# Altium schematic symbol library IC_Components.SchLib: 15 symbols
Pins are listed as number, name and electrical type; pins without a type are passive.

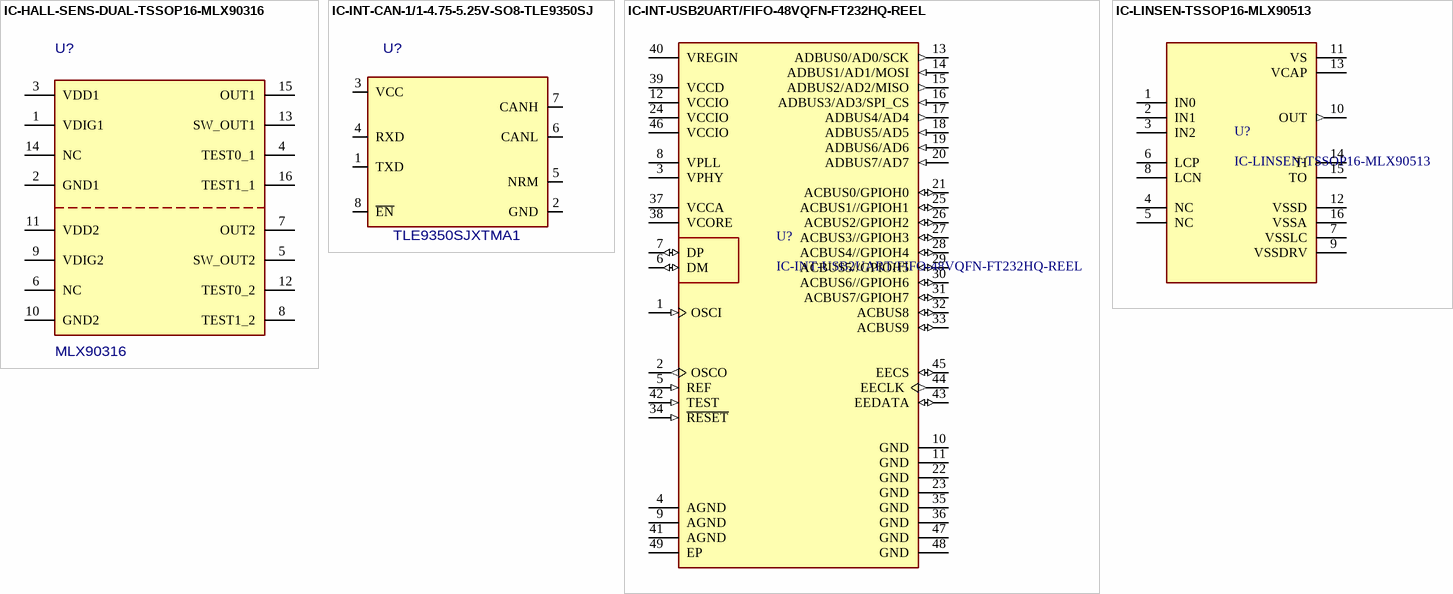
[diagram p0: symbols IC-HALL-SENS-DUAL-TSSOP16-MLX90316 to IC-LINSEN-TSSOP16-MLX90513]

## IC-HALL-SENS-DUAL-TSSOP16-MLX90316
designator U?  value MLX90316  (hidden comment: IC-HALL-SENS-DUAL-TSSOP16-MLX90316)
Dual-Die Hall Effect Rotation Sensor, MLX90316, TSSOP16; QPN: 129-002219-9316; MFGPN: MLX90316KGO; MFG: Melexis; PCB DECAL: SSOP/16P/N; OPN: 82247900
footprint TSSOP-16_4.4x5mm_P0.65mm (TSOP, 16-Leads, Body 5.00x4.40mm, Pitch 0.65mm, IPC Medium Density)
pins: 1 VDIG1, 2 GND1, 3 VDD1, 4 TEST0_1, 5 SW_OUT2, 6 NC, 7 OUT2, 8 TEST1_2, 9 VDIG2, 10 GND2, 11 VDD2, 12 TEST0_2, 13 SW_OUT1, 14 NC, 15 OUT1, 16 TEST1_1

## IC-INT-CAN-1/1-4.75-5.25V-SO8-TLE9350SJ
designator U?  value TLE9350SJXTMA1  (hidden comment: IC-INT-CAN-1/1-4.75-5.25V-SO8-TLE9350SJ)
IC, CAN, XCVR, 1:1, 5Mbps, 4.75-5.25V, SO8; MFG: Infineon Technologies; QPN: 129-101808-9350; Temp: 150C; MFGPN: TLE9350SJXTMA1
footprint SOIC-8P-NARROW (SOIC8, Narrow)
pins: 1 TXD, 2 GND, 3 VCC, 4 RXD, 5 NRM, 6 CANL, 7 CANH, 8 ~{EN}

## IC-INT-USB2UART/FIFO-48VQFN-FT232HQ-REEL
designator U?
USB Bridge, USB to UART,FIFO USB 2.0 UART, FIFO Interface 48-QFN (8x8); MFG: FTDI, Future; QPN: 129-103528-0232; SnapEDA_Link: https://www.snapeda.com/parts/FT232HQ-REEL/FTDI/view-part/?ref=snap; Value: FT232HQ; MFGPN: FT232HQ-REEL
footprint VQFPN49-EP
pins: 1 OSCI (in), 2 OSCO (out), 3 VPHY (power), 4 AGND (power), 5 REF (in), 6 DM (io), 7 DP (io), 8 VPLL (power), 9 AGND (power), 10 GND (power), 11 GND (power), 12 VCCIO (power), 13 ADBUS0/AD0/SCK (out), 14 ADBUS1/AD1/MOSI (in), 15 ADBUS2/AD2/MISO (out), 16 ADBUS3/AD3/SPI_CS (in), 17 ADBUS4/AD4 (out), 18 ADBUS5/AD5 (in), 19 ADBUS6/AD6 (in), 20 ADBUS7/AD7 (in), 21 ACBUS0/GPIOH0 (io), 22 GND (power), 23 GND (power), 24 VCCIO (power), 25 ACBUS1//GPIOH1 (io), 26 ACBUS2/GPIOH2 (io), 27 ACBUS3//GPIOH3 (io), 28 ACBUS4//GPIOH4 (io), 29 ACBUS5//GPIOH5 (io), 30 ACBUS6//GPIOH6 (io), 31 ACBUS7/GPIOH7 (io), 32 ACBUS8 (io), 33 ACBUS9 (io), 34 ~{RESET} (in), 35 GND (power), 36 GND (power), 37 VCCA (power), 38 VCORE (power), 39 VCCD (power), 40 VREGIN (power), 41 AGND (power), 42 TEST (in), 43 EEDATA (io), 44 EECLK (out), 45 EECS (io), 46 VCCIO (power), 47 GND (power), 48 GND (power), 49 EP (power)

## IC-LINSEN-TSSOP16-MLX90513
designator U?
IC, Linear Sesnsor; MP: MLX90513GGO-CAA-100-RE; Package: None; Price: None; Value: *; Availability: Unavailable
footprint TSSOP-16-NARROW-4.4x5mm-P0.65mm
pins: 1 IN0, 2 IN1, 3 IN2, 4 NC, 5 NC, 6 LCP, 7 VSSLC (power), 8 LCN, 9 VSSDRV (power), 10 OUT (out), 11 VS (power), 12 VSSD (power), 13 VCAP (power), 14 TI, 15 TO, 16 VSSA (power)

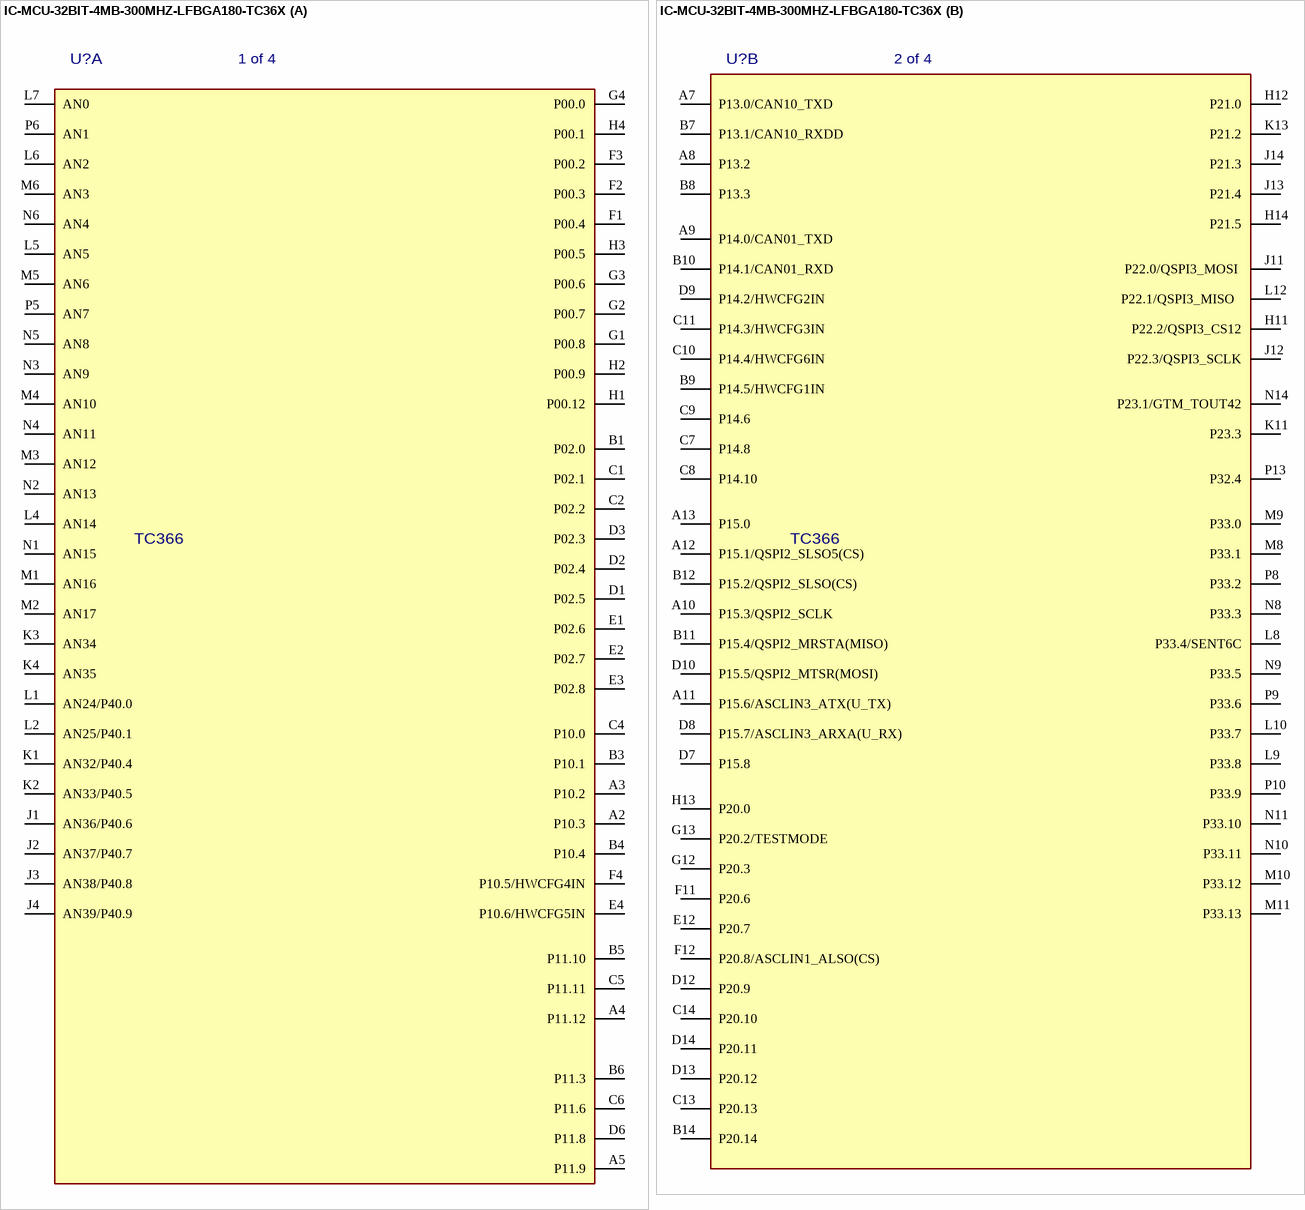
[diagram p1: symbol IC-MCU-32BIT-4MB-300MHZ-LFBGA180-TC36X]

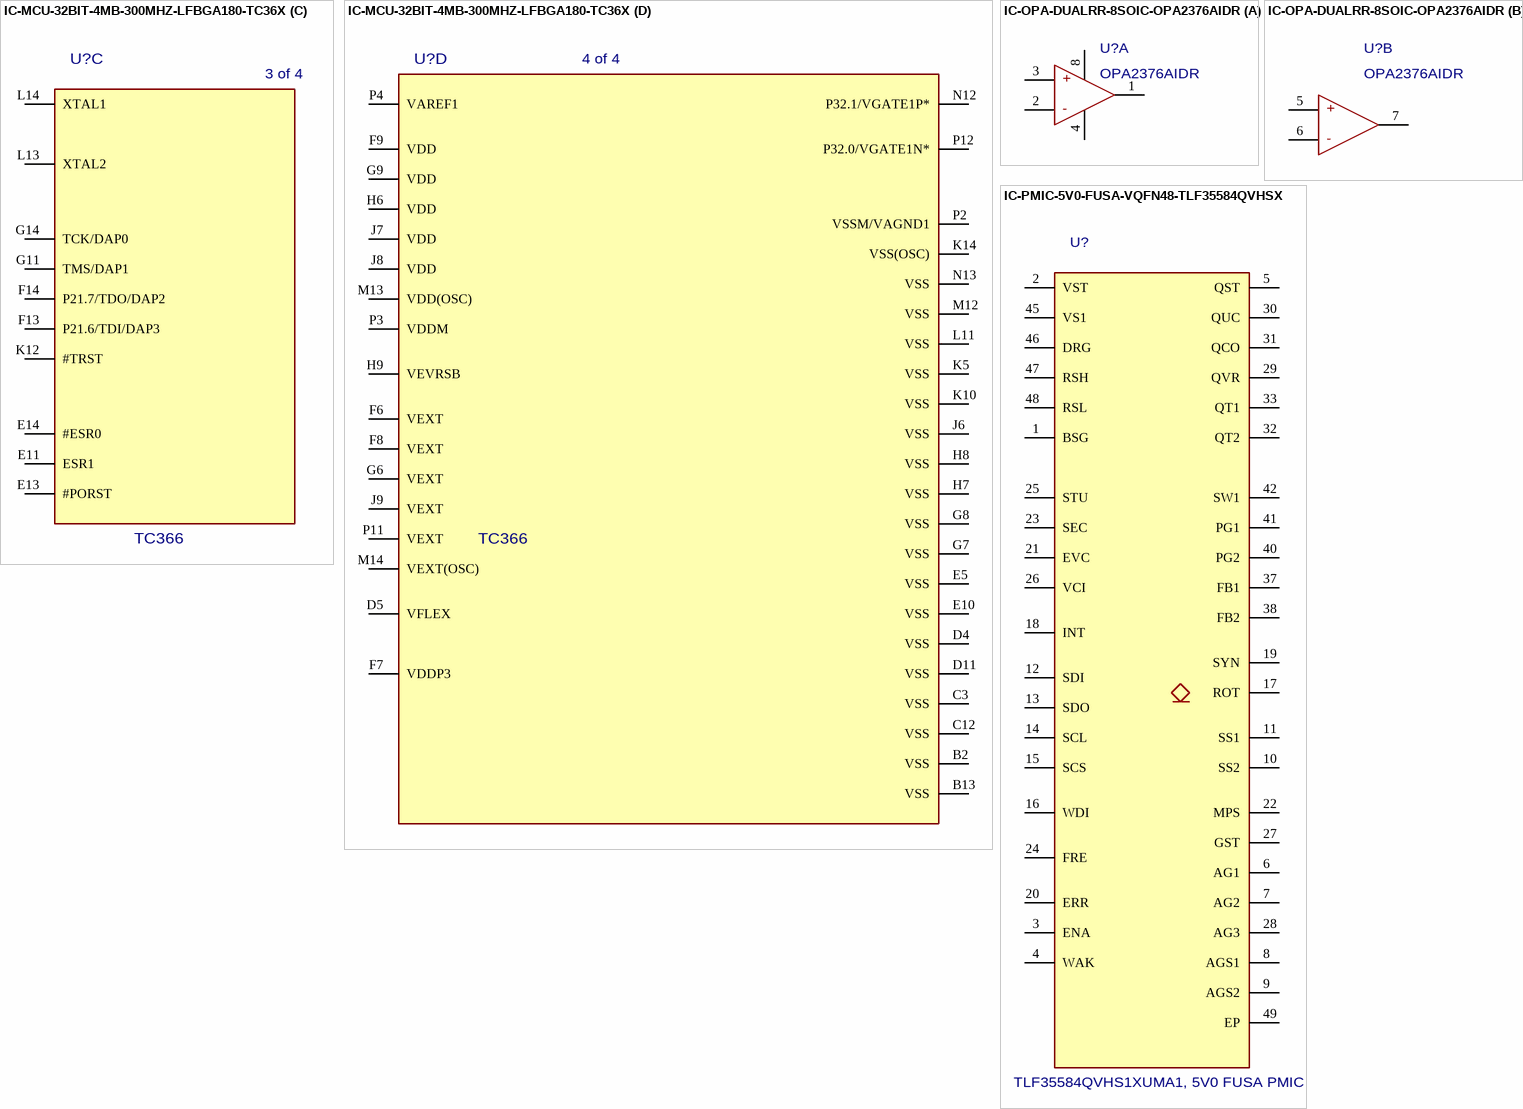
[diagram p2: symbols IC-MCU-32BIT-4MB-300MHZ-LFBGA180-TC36X to IC-PMIC-5V0-FUSA-VQFN48-TLF35584QVHSX]

## IC-MCU-32BIT-4MB-300MHZ-LFBGA180-TC36X
designator U?  value TC366  (hidden comment: IC-MCU-32BIT-4MB-300MHZ-LFBGA180-TC36X)
32-bit MCU Aurix 36X, Dual Core, LFBGA-180, 4MB, 300MHz; MFG: Infineon; MFGPN: TC366DP64F300SAAKXUMA1; QPN: 129-101340-0366; Notes: Each core contains a lock-step core; Temp: 125C
footprint PF-LFBGA-180P-INFINEON-TC36X
part A pins: A2 P10.3, A3 P10.2, A4 P11.12, A5 P11.9, B1 P02.0, B3 P10.1, B4 P10.4, B5 P11.10, B6 P11.3, C1 P02.1, C2 P02.2, C4 P10.0, C5 P11.11, C6 P11.6, D1 P02.5, D2 P02.4, D3 P02.3, D6 P11.8, E1 P02.6, E2 P02.7, E3 P02.8, E4 P10.6/HWCFG5IN, F1 P00.4, F2 P00.3, F3 P00.2, F4 P10.5/HWCFG4IN, G1 P00.8, G2 P00.7, G3 P00.6, G4 P00.0, H1 P00.12, H2 P00.9, H3 P00.5, H4 P00.1, J1 AN36/P40.6, J2 AN37/P40.7, J3 AN38/P40.8, J4 AN39/P40.9, K1 AN32/P40.4, K2 AN33/P40.5, K3 AN34, K4 AN35, L1 AN24/P40.0, L2 AN25/P40.1, L4 AN14, L5 AN5, L6 AN2, L7 AN0, M1 AN16, M2 AN17, M3 AN12, M4 AN10, M5 AN6, M6 AN3, N1 AN15, N2 AN13, N3 AN9, N4 AN11, N5 AN8, N6 AN4, P5 AN7, P6 AN1
part B pins: A7 P13.0/CAN10_TXD, A8 P13.2, A9 P14.0/CAN01_TXD, A10 P15.3/QSPI2_SCLK, A11 P15.6/ASCLIN3_ATX(U_TX), A12 P15.1/QSPI2_SLSO5(CS), A13 P15.0, B7 P13.1/CAN10_RXDD, B8 P13.3, B9 P14.5/HWCFG1IN, B10 P14.1/CAN01_RXD, B11 P15.4/QSPI2_MRSTA(MISO), B12 P15.2/QSPI2_SLSO(CS), B14 P20.14, C7 P14.8, C8 P14.10, C9 P14.6, C10 P14.4/HWCFG6IN, C11 P14.3/HWCFG3IN, C13 P20.13, C14 P20.10, D7 P15.8, D8 P15.7/ASCLIN3_ARXA(U_RX), D9 P14.2/HWCFG2IN, D10 P15.5/QSPI2_MTSR(MOSI), D12 P20.9, D13 P20.12, D14 P20.11, E12 P20.7, F11 P20.6, F12 P20.8/ASCLIN1_ALSO(CS), G12 P20.3, G13 P20.2/TESTMODE, H11 P22.2/QSPI3_CS12, H12 P21.0, H13 P20.0, H14 P21.5, J11 P22.0/QSPI3_MOSI , J12 P22.3/QSPI3_SCLK, J13 P21.4, J14 P21.3, K11 P23.3, K13 P21.2, L8 P33.4/SENT6C, L9 P33.8, L10 P33.7, L12 P22.1/QSPI3_MISO  , M8 P33.1, M9 P33.0, M10 P33.12, M11 P33.13, N8 P33.3, N9 P33.5, N10 P33.11, N11 P33.10, N14 P23.1/GTM_TOUT42, P8 P33.2, P9 P33.6, P10 P33.9, P13 P32.4
part C pins: E11 ESR1, E13 #PORST, E14 #ESR0, F13 P21.6/TDI/DAP3, F14 P21.7/TDO/DAP2, G11 TMS/DAP1, G14 TCK/DAP0, K12 #TRST, L13 XTAL2, L14 XTAL1
part D pins: B2 VSS, B13 VSS, C3 VSS, C12 VSS, D4 VSS, D5 VFLEX, D11 VSS, E5 VSS, E10 VSS, F6 VEXT, F7 VDDP3, F8 VEXT, F9 VDD, G6 VEXT, G7 VSS, G8 VSS, G9 VDD, H6 VDD, H7 VSS, H8 VSS, H9 VEVRSB, J6 VSS, J7 VDD, J8 VDD, J9 VEXT, K5 VSS, K10 VSS, K14 VSS(OSC), L11 VSS, M12 VSS, M13 VDD(OSC), M14 VEXT(OSC), N12 P32.1/VGATE1P*, N13 VSS, P2 VSSM/VAGND1, P3 VDDM, P4 VAREF1, P11 VEXT, P12 P32.0/VGATE1N*
part A text: 1 of 4
part B text: 2 of 4
part C text: 3 of 4
part D text: 4 of 4

## IC-OPA-DUALRR-8SOIC-OPA2376AIDR
designator U?  MFGPN: OPA2376AIDR  (hidden comment: IC-OPA-DUALRR-8SOIC-OPA2376AIDR)
IC, Op-Amp, Rail-Rail, Dual, 5.5MHz, GP, SOIC-8; QPN: 129-101805-2376; MFG: Texas Instruments; Temp: 125C; Value: OPA2376
footprint SOIC-8P-NARROW (SOIC8, Narrow)
part A pins: 1 O1, 2 IN1-, 3 IN1+, 4 VSS, 8 VDD
part B pins: 5 IN2+, 6 IN2-, 7 O2
part A text: +; -
part B text: +; -

## IC-PMIC-5V0-FUSA-VQFN48-TLF35584QVHSX
designator U?  value TLF35584QVHS1XUMA1, 5V0 FUSA PMIC  (hidden comment: IC-PMIC-5V0-FUSA-VQFN48-TLF35584QVHSX)
IC, PMIC, 5V0 Functional Safety Regulator, VQFN48; MFG: Infineon; MFGPN: TLF35584QVHS1XUMA1; QPN: 129-033526-3551; Temp: 175C
footprint VQFPN48-EP
pins: 1 BSG, 2 VST, 3 ENA, 4 WAK, 5 QST, 6 AG1, 7 AG2, 8 AGS1, 9 AGS2, 10 SS2, 11 SS1, 12 SDI, 13 SDO, 14 SCL, 15 SCS, 16 WDI, 17 ROT, 18 INT, 19 SYN, 20 ERR, 21 EVC, 22 MPS, 23 SEC, 24 FRE, 25 STU, 26 VCI, 27 GST, 28 AG3, 29 QVR, 30 QUC, 31 QCO, 32 QT2, 33 QT1, 37 FB1, 38 FB2, 40 PG2, 41 PG1, 42 SW1, 45 VS1, 46 DRG, 47 RSH, 48 RSL, 49 EP

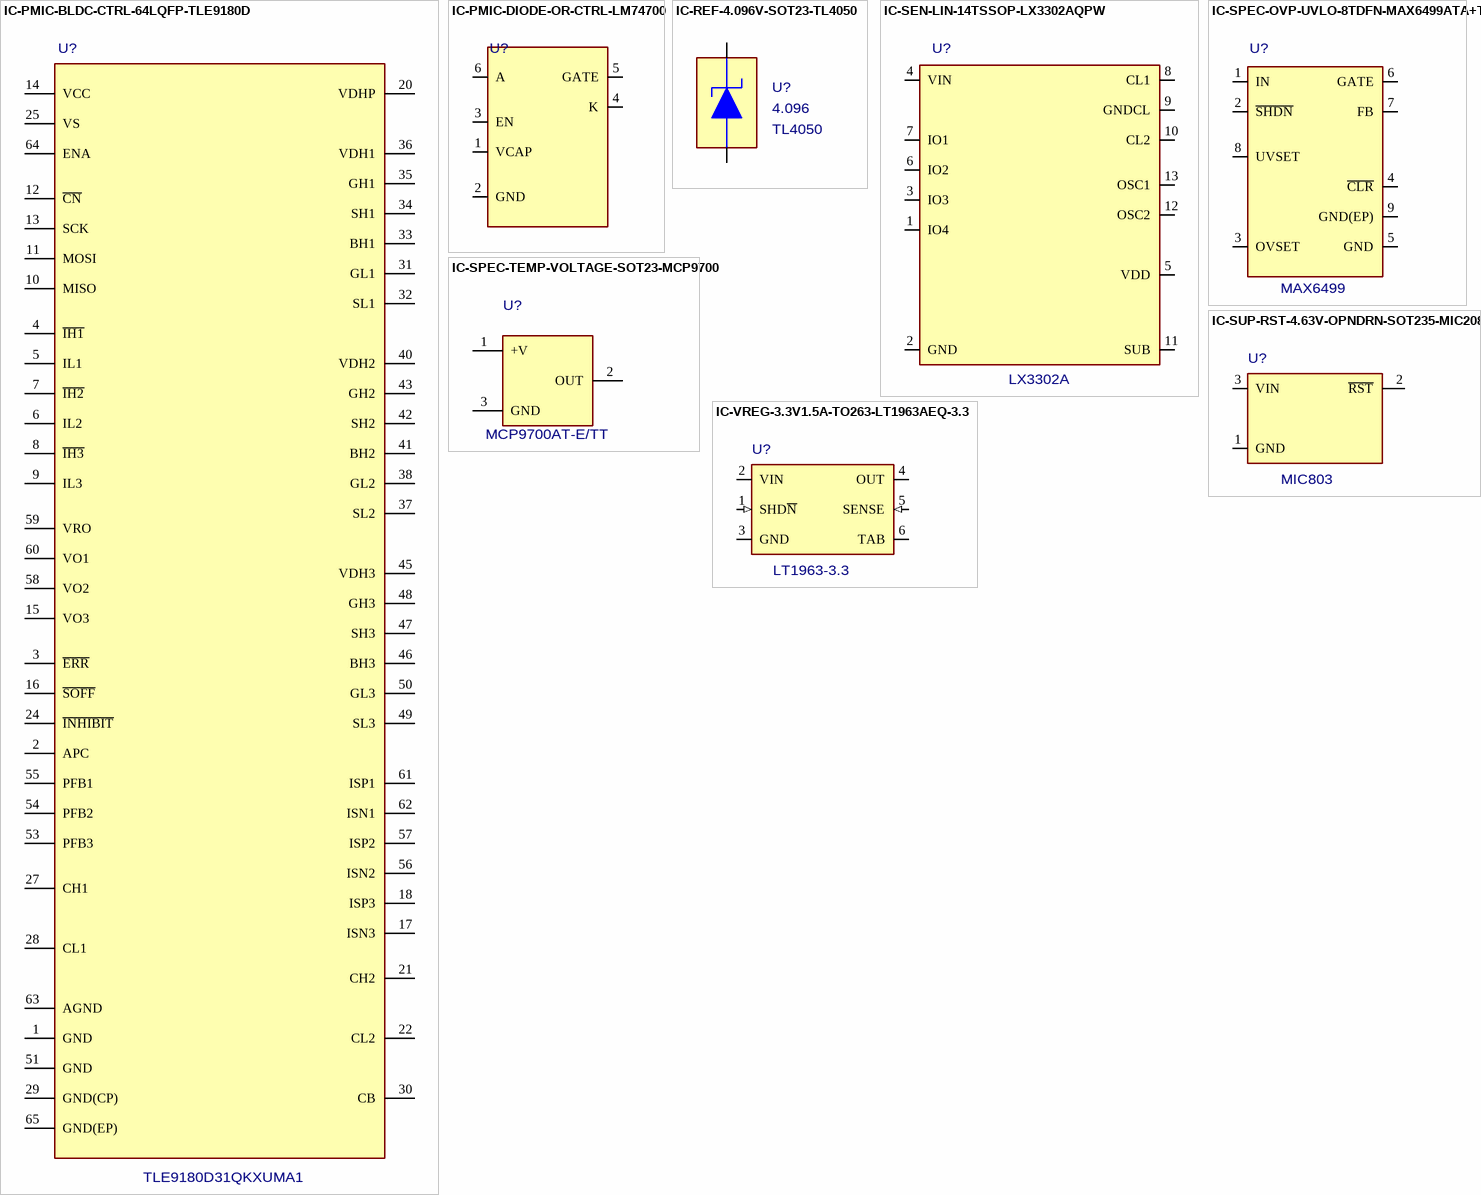
[diagram p3: symbols IC-PMIC-BLDC-CTRL-64LQFP-TLE9180D to IC-VREG-3.3V1.5A-TO263-LT1963AEQ-3.3]

## IC-PMIC-BLDC-CTRL-64LQFP-TLE9180D
designator U?  value TLE9180D31QKXUMA1  (hidden comment: IC-PMIC-BLDC-CTRL-64LQFP-TLE9180D)
IC, PMIC, BLDC CTRL,64 LQFP; MFG: Infineon; QPN: 129-012039-9180; Temp: 150C; MFGPN: TLE9180D31QKXUMA1
footprint LQFP64_EP
pins: 1 GND, 2 APC, 3 ~{ERR}, 4 ~{IH1}, 5 IL1, 6 IL2, 7 ~{IH2}, 8 ~{IH3}, 9 IL3, 10 MISO, 11 MOSI, 12 ~{CN}, 13 SCK, 14 VCC, 15 VO3, 16 ~{SOFF}, 17 ISN3, 18 ISP3, 20 VDHP, 21 CH2, 22 CL2, 24 ~{INHIBIT}, 25 VS, 27 CH1, 28 CL1, 29 GND(CP), 30 CB, 31 GL1, 32 SL1, 33 BH1, 34 SH1, 35 GH1, 36 VDH1, 37 SL2, 38 GL2, 40 VDH2, 41 BH2, 42 SH2, 43 GH2, 45 VDH3, 46 BH3, 47 SH3, 48 GH3, 49 SL3, 50 GL3, 51 GND, 53 PFB3, 54 PFB2, 55 PFB1, 56 ISN2, 57 ISP2, 58 VO2, 59 VRO, 60 VO1, 61 ISP1, 62 ISN1, 63 AGND, 64 ENA, 65 GND(EP)

## IC-PMIC-DIODE-OR-CTRL-LM74700
designator U?  (value not drawn)
IC, PMIC, Ideal Diode Controller, 3.2~65V, SOT23-6; MFG: Texas Instruments; MFGPN: LM74700QDBVRQ1; QPN: 129-032609-7470; Temp: 125C; Geometry.height: 0.057"; Value: LM74700
footprint SOT-23-6
pins: 1 VCAP, 2 GND, 3 EN, 4 K, 5 GATE, 6 A

## IC-REF-4.096V-SOT23-TL4050
designator U?  value TL4050  Voltage: 4.096  (hidden comment: IC-REF-4.096V-SOT23-TL4050)
IC, Voltage Reference, 4.096V, SOT-23-3; MFG: Texas Instruments; MFGPN: TL4050C41QDBZR; QPN: 129-102606-4050; Temp: 125C
footprint SOT-23
pins: 1 K, 2 A

## IC-SEN-LIN-14TSSOP-LX3302AQPW
designator U?  value LX3302A  (hidden comment: IC-SEN-LIN-14TSSOP-LX3302AQPW)
IC, Spec, MCU, Lin Sensor, TSSOP14; MFG: Microchip; MFGPN: LX3302AQPW-TR-EASY; QPN: 129-102218-3302; Temp: 150C
footprint TSSOP-14-4.5X5MM-P.065
pins: 1 IO4, 2 GND, 3 IO3, 4 VIN, 5 VDD, 6 IO2, 7 IO1, 8 CL1, 9 GNDCL, 10 CL2, 11 SUB, 12 OSC2, 13 OSC1

## IC-SPEC-OVP-UVLO-8TDFN-MAX6499ATA+T
designator U?  value MAX6499  (hidden comment: IC-SPEC-OVP-UVLO-8TDFN-MAX6499ATA+T)
IC, Over and Under Voltage Protection, 5.5-72V, 8TDFN; MFG: Maxim; QPN: 129-103209-6499; PCB DECAL: 8TDFN/MAX6499ATA; Temp: 125C; Geometry.height: 0.032"; MFGPN: MAX6499ATA+T
footprint TDFN-8-EP
pins: 1 IN, 2 ~{SHDN}, 3 OVSET, 4 ~{CLR}, 5 GND, 6 GATE, 7 FB, 8 UVSET, 9 GND(EP)

## IC-SPEC-TEMP-VOLTAGE-SOT23-MCP9700
designator U?  value MCP9700AT-E/TT  (hidden comment: IC-SPEC-TEMP-VOLTAGE-SOT23-MCP9700)
IC, Temp, Analog, 2.3~.5.5V, -40-125C, SOT-23; MFG: Microchip; QPN: 129-102609-9700; Temp: 125C; Geometry.height: 0.044"; MFGPN: MCP9700AT-E/TT; PCB DECAL: SOT-23
footprint SOT-23
pins: 1 +V, 2 OUT, 3 GND

## IC-SUP-RST-4.63V-OPNDRN-SOT235-MIC208
designator U?  value MIC803  (hidden comment: IC-SUP-RST-4.63V-OPNDRN-SOT235-MIC208)
Supervisory IC, 4.63V, Active Low Output, Open Drain; MFG: Microchip Technology; MFGPN: MIC803-46D3VC3-TR; QPN: 129-103609-8034; Temp: 125C; Geometry.height: 0.044"
footprint SOT-323-SC-70-3
pins: 1 GND, 2 ~{RST}, 3 VIN

## IC-VREG-3.3V1.5A-TO263-LT1963AEQ-3.3
designator U?  value LT1963-3.3  (hidden comment: IC-VREG-3.3V1.5A-TO263-LT1963AEQ-3.3)
Linear Regulator, Fixed 3V3 @ 1.5A, D2PAK-5 (TO-263); MFG: Analog Devices; Temp: 125C; MFGPN: LT1963AEQ-3.3
footprint TO-263-D2PAK (Footprint not found)
pins: 1 SHD~{N} (in), 2 VIN (power), 3 GND (power), 4 OUT (power), 5 SENSE (in), 6 TAB